# EAGLE library part TTP224N-BSB (library ICs)
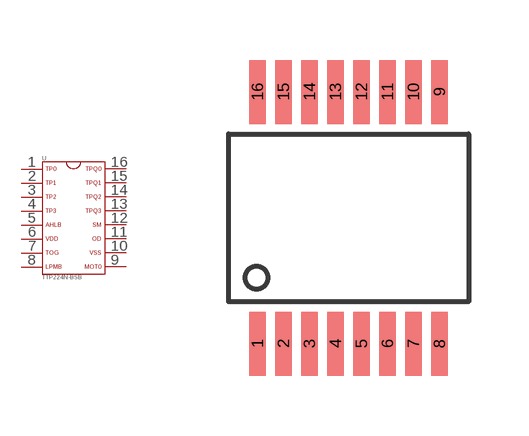
[diagram p1: symbol with the pads of SSOP-16; footprint SSOP-16]

Designator prefix U

## TTP224N-BSB  [SSOP-16]
1  1  pas
2  2  pas
3  3  pas
4  4  pas
5  5  pas
6  6  pas
7  7  pas
8  8  pas
9  9  pas
10  10  pas
11  11  pas
12  12  pas
13  13  pas
14  14  pas
15  15  pas
16  16  pas

## Footprint SSOP-16 (pad centres in mm)
smd 0.42 x 1.6: 1 -2.275,-3.15; 2 -1.625,-3.15; 3 -0.975,-3.15; 4 -0.325,-3.15; 5 0.325,-3.15; 6 0.975,-3.15; 7 1.625,-3.15; 8 2.275,-3.15; 9 2.275,3.15; 10 1.625,3.15; 11 0.975,3.15; 12 0.325,3.15; 13 -0.325,3.15; 14 -0.975,3.15; 15 -1.625,3.15; 16 -2.275,3.15